# EAGLE library part NRF24L01+ (library nRF24l01+)
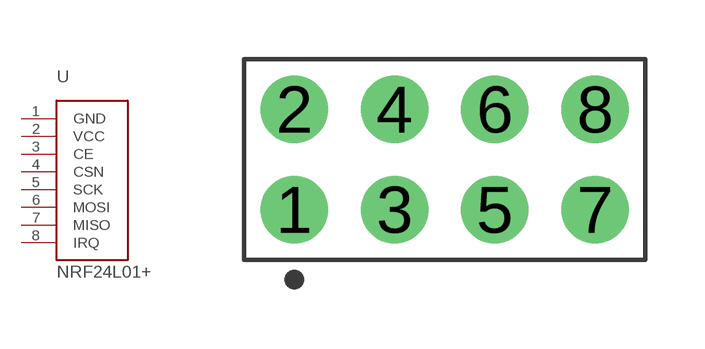
[diagram p0: symbol with the pads of NRF24L01+; footprint NRF24L01+]

Designator prefix -

## NRF24L01+NRF24L01+  [NRF24L01+]
1  GND  in
2  VCC  in
3  CE  in
4  CSN  in
5  SCK  in
6  MOSI  in
7  MISO  out
8  IRQ  out

## Footprint NRF24L01+ (pad centres in mm)
Double-row, 8-pin Receptacle Header (Female) Straight, 2.54 mm (0.10 in) row pitch, 2.54 mm (0.10 in) col pitch, 2.54 mm insulator length, 10.16 X 5.08 X 2.54 mm body Double-row (2X4), 8-pin Receptacle Header (Female) Straight package with 2.54 mm (0.10 in) row pitch, 2.54 mm (0.10 in) col pitch, 0.64 mm lead width, 3.00 mm tail length and 2.54 mm insulator length with overall size 10.16 X 5.08 X 2.54 mm, pin pattern - zigzag from bottom left
drill 1.105 pad 1.705: 1 0,0; 2 0,2.54; 3 2.54,0; 4 2.54,2.54; 5 5.08,0; 6 5.08,2.54; 7 7.62,0; 8 7.62,2.54